# EAGLE library part IP5306_4.35V (library dpx-IC)
2.1A Charging 2.4 A Discharge Highly Integrated Mobile Power Supply Source: Datasheet <https://datasheet.lcsc.com/szlcsc/1906271838_INJOINIC-IP5306-4-35V_C384572.pdf>
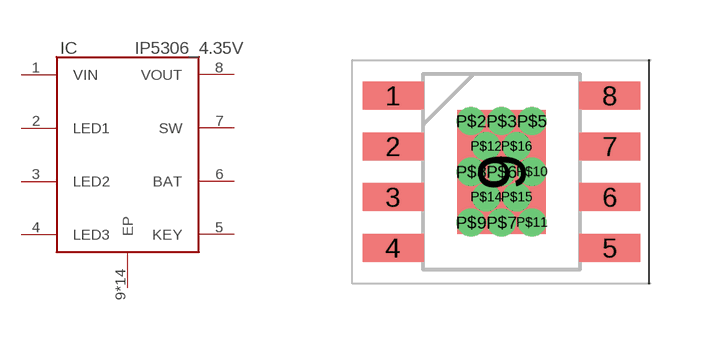
[diagram p12: symbol with the pads of SOIC127P600X165-9N; footprint SOIC127P600X165-9N]

Designator prefix IC

## IP5306_4.35V (DESCRIPTION: 2.1A Charging 2.4 A Discharge Highly Integrated Mobile Power Supply; HEIGHT: 1.65mm; MANUFACTURER_NAME: INJOINIC; MANUFACTURER_PART_NUMBER: IP5306_4.35V)  [SOIC127P600X165-9N]
1  VIN
2  LED1
3  LED2
4  LED3
5  KEY
6  BAT
7  SW
8  VOUT
9  EP
P$2  EP
P$3  EP
P$5  EP
P$6  EP
P$7  EP
P$8  EP
P$9  EP
P$10  EP
P$11  EP
P$12  EP
P$14  EP
P$15  EP
P$16  EP

## Footprint SOIC127P600X165-9N (pad centres in mm)
IP5306
smd 1.525 x 0.7: 1 -2.712,1.905; 2 -2.712,0.635; 3 -2.712,-0.635; 4 -2.712,-1.905; 5 2.712,-1.905; 6 2.712,-0.635; 7 2.712,0.635; 8 2.712,1.905
smd 2.21 x 3.1: 9 0,0
drill 0.2 pad 0.406: P$2 -0.762,1.27; P$3 0,1.27; P$5 0.762,1.27; P$6 0,0; P$7 0,-1.27; P$8 -0.762,0; P$9 -0.762,-1.27; P$10 0.762,0; P$11 0.762,-1.27; P$12 -0.381,0.635; P$14 -0.381,-0.635; P$15 0.381,-0.635; P$16 0.381,0.635